# EAGLE library part PA1134NL (library ell-i)
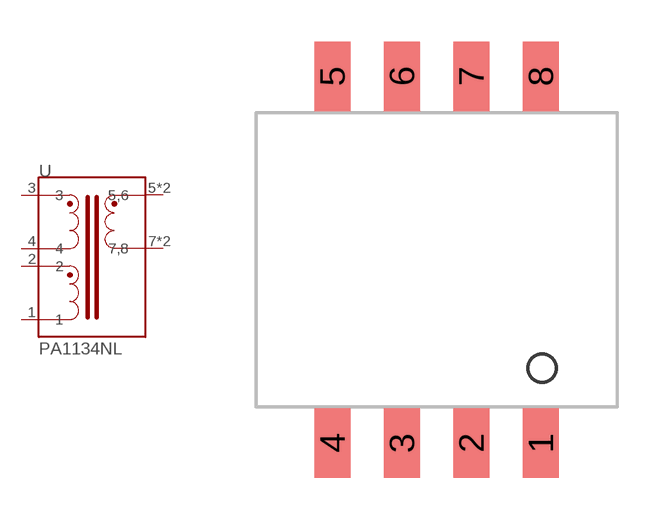
[diagram p4: symbol with the pads of PA1134NL; footprint PA1134NL]

Designator prefix -

## PA1134NL  [PA1134NL]
1  1
2  2
3  3
4  4
5  5,6
6  5,6
7  7,8
8  7,8

## Footprint PA1134NL (pad centres in mm)
smd 1.3 x 2.5: 1 3.75,-6.6; 2 1.25,-6.6; 3 -1.25,-6.6; 4 -3.75,-6.6; 5 -3.75,6.6; 6 -1.25,6.6; 7 1.25,6.6; 8 3.75,6.6